# EAGLE library part XS1-L01A-LQ64 (library xmos)
XCORE Processor
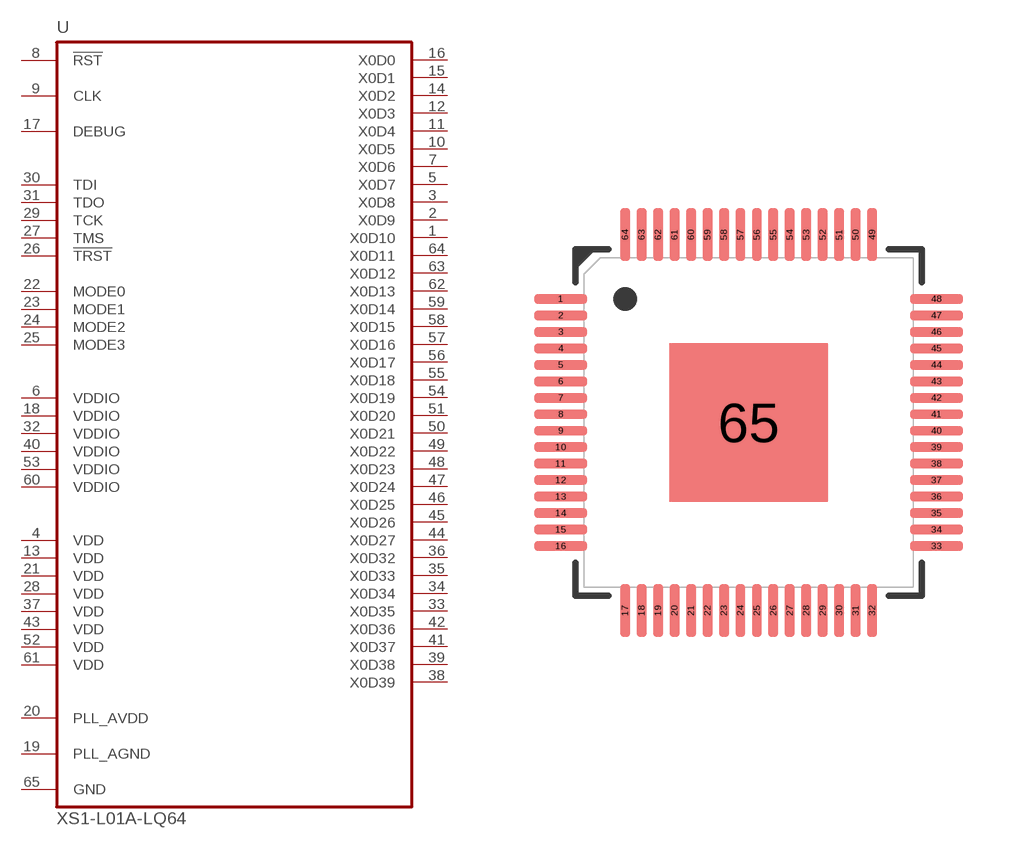
[diagram p2: symbol with the pads of LQ64; footprint LQ64]

Designator prefix U

## XS1-L01A-LQ64  [LQ64]
1  X0D10  pas
2  X0D9  pas
3  X0D8  pas
4  VDD  pas
5  X0D7  pas
6  VDDIO  pas
7  X0D6  pas
8  !RST!  pas
9  CLK  pas
10  X0D5  pas
11  X0D4  pas
12  X0D3  pas
13  VDD  pas
14  X0D2  pas
15  X0D1  pas
16  X0D0  pas
17  DEBUG  pas
18  VDDIO  pas
19  PLL_AGND  pas
20  PLL_AVDD  pas
21  VDD  pas
22  MODE0  pas
23  MODE1  pas
24  MODE2  pas
25  MODE3  pas
26  !TRST!  pas
27  TMS  pas
28  VDD  pas
29  TCK  pas
30  TDI  pas
31  TDO  pas
32  VDDIO  pas
33  X0D35  pas
34  X0D34  pas
35  X0D33  pas
36  X0D32  pas
37  VDD  pas
38  X0D39  pas
39  X0D38  pas
40  VDDIO  pas
41  X0D37  pas
42  X0D36  pas
43  VDD  pas
44  X0D27  pas
45  X0D26  pas
46  X0D25  pas
47  X0D24  pas
48  X0D23  pas
49  X0D22  pas
50  X0D21  pas
51  X0D20  pas
52  VDD  pas
53  VDDIO  pas
54  X0D19  pas
55  X0D18  pas
56  X0D17  pas
57  X0D16  pas
58  X0D15  pas
59  X0D14  pas
60  VDDIO  pas
61  VDD  pas
62  X0D13  pas
63  X0D12  pas
64  X0D11  pas
65  GND

## Footprint LQ64 (pad centres in mm)
LQFP-64 body 10 x 10 mm, 0.5 mm pitch
smd 1.6 x 0.3: 1 -5.7,3.75; 2 -5.7,3.25; 3 -5.7,2.75; 4 -5.7,2.25; 5 -5.7,1.75; 6 -5.7,1.25; 7 -5.7,0.75; 8 -5.7,0.25; 9 -5.7,-0.25; 10 -5.7,-0.75; 11 -5.7,-1.25; 12 -5.7,-1.75; 13 -5.7,-2.25; 14 -5.7,-2.75; 15 -5.7,-3.25; 16 -5.7,-3.75; 33 5.7,-3.75; 34 5.7,-3.25; 35 5.7,-2.75; 36 5.7,-2.25; 37 5.7,-1.75; 38 5.7,-1.25; 39 5.7,-0.75; 40 5.7,-0.25; 41 5.7,0.25; 42 5.7,0.75; 43 5.7,1.25; 44 5.7,1.75; 45 5.7,2.25; 46 5.7,2.75; 47 5.7,3.25; 48 5.7,3.75
smd 0.3 x 1.6: 17 -3.75,-5.7; 18 -3.25,-5.7; 19 -2.75,-5.7; 20 -2.25,-5.7; 21 -1.75,-5.7; 22 -1.25,-5.7; 23 -0.75,-5.7; 24 -0.25,-5.7; 25 0.25,-5.7; 26 0.75,-5.7; 27 1.25,-5.7; 28 1.75,-5.7; 29 2.25,-5.7; 30 2.75,-5.7; 31 3.25,-5.7; 32 3.75,-5.7; 49 3.75,5.7; 50 3.25,5.7; 51 2.75,5.7; 52 2.25,5.7; 53 1.75,5.7; 54 1.25,5.7; 55 0.75,5.7; 56 0.25,5.7; 57 -0.25,5.7; 58 -0.75,5.7; 59 -1.25,5.7; 60 -1.75,5.7; 61 -2.25,5.7; 62 -2.75,5.7; 63 -3.25,5.7; 64 -3.75,5.7
smd 4.8 x 4.8: 65 0,0